# Altium footprint library Kanaloa_v2.0.0_Motor.PcbLib: 76 footprints (part 3 of 5)
Each footprint in its own frame and in the unit in brackets; x right, y up, seen from the top. Pads: shape width x height; smd on the part's side, far side on the other; paste and mask are expansions set on the pad; w line width, h text height; cw(c..) or ccw(c..) is an arc to the next point about the centre after c.
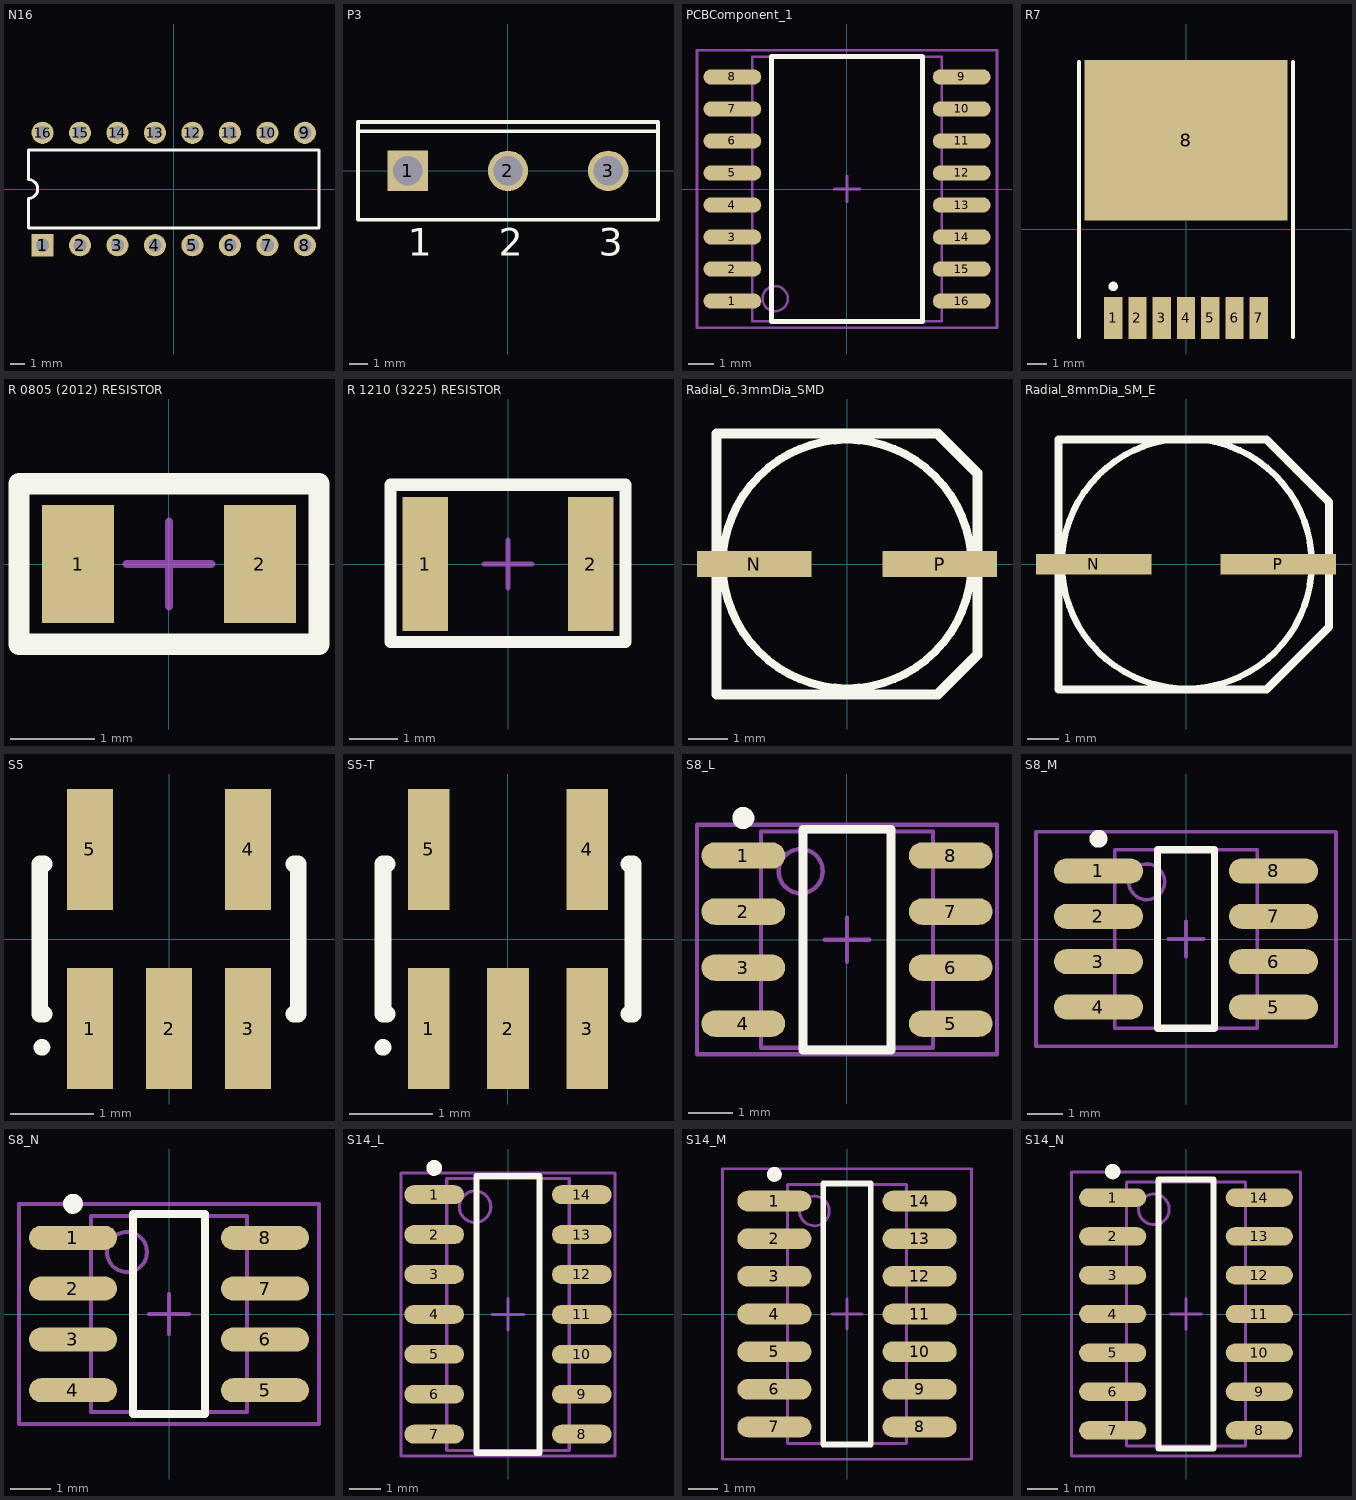
[diagram p2: the footprints below, top view; thin cyan lines are the x and y axes]

## N16 [mm] "DIP, Plastic; 16 Leads; Row Spacing 7.62 mm; Pitch 2.54 mm"
height 4.45
pads (16):
  rect 1.5x1.5 hole 0.9: 1(-8.89,-3.81)
  round 1.5 hole 0.9: 2(-6.35,-3.81) 3(-3.81,-3.81) 4(-1.27,-3.81) 5(1.27,-3.81) 6(3.81,-3.81) 7(6.35,-3.81) 8(8.89,-3.81) 9(8.89,3.81) 10(6.35,3.81) 11(3.81,3.81) 12(1.27,3.81) 13(-1.27,3.81) 14(-3.81,3.81) 15(-6.35,3.81) 16(-8.89,3.81)
Top Overlay:
  lines w0.2: -9.85,-2.65 -9.85,-0.635 ccw(c-9.85,0) -9.85,0.635 -9.85,2.65 9.85,2.65 9.85,-2.65 -9.85,-2.65

## P3 [mm] "SIP with Mounting Hole; 3 Leads; Body 21.6 x 16 x 5 mm (typ); Pitch 5.45 mm"
height 26.5
pads (3):
  rect 2.2x2.2 hole 1.6: 1(-5.45,0)
  round 2.2 hole 1.6: 2(0,0) 3(5.45,0)
Top Overlay:
  lines w0.2: -8.15,2.15 8.15,2.15 ; -8.15,-2.65 -8.15,2.65 8.15,2.65 8.15,-2.65 -8.15,-2.65
  text "3" at 4.942,-4.625 h1.5
  text "2" at -0.508,-4.625 h1.5
  text "1" at -5.45,-4.625 h1.5

## PCBComponent_1 [mm]
pads (16):
  oval 2.3x0.6 smd: 1(-4.55,-4.445) 2(-4.55,-3.175) 3(-4.55,-1.905) 4(-4.55,-0.635) 5(-4.55,0.635) 6(-4.55,1.905) 7(-4.55,3.175) 8(-4.55,4.445) 9(4.55,4.445) 10(4.55,3.175) 11(4.55,1.905) 12(4.55,0.635) 13(4.55,-0.635) 14(4.55,-1.905) 15(4.55,-3.175) 16(4.55,-4.445)
Top Overlay:
  lines w0.2: -3,-5.25 3,-5.25 3,5.25 -3,5.25 -3,-5.25
Bottom Overlay:
  circle w0.6: c-2,-4.25 r0.3
  circle w0.25: c-4.55,-5.295 r0.125
Mechanical 13:
  circle w0.1: c-2.85,-4.35 r0.5
  lines w0.1: -3.75,-5.25 3.75,-5.25 3.75,5.25 -3.75,5.25 -3.75,-5.25
Mechanical 15:
  lines w0.1: -0.5,0 0.5,0 ; 0,-0.5 0,0.5 ; -5.95,-5.5 5.95,-5.5 5.95,5.5 -5.95,5.5 -5.95,-5.5

## R7 [mm] "D2-PAK; 7 Leads; Body 13.9 (inc. leads) x 10.6 mm (LxW max)"
height 4.65
pads (8):
  rect 0.95x2.2 smd: 1(-3.81,-4.65) 2(-2.54,-4.65) 3(-1.27,-4.65) 4(0,-4.65) 5(1.27,-4.65) 6(2.54,-4.65) 7(3.81,-4.65)
  rect 10.6x8.4 smd: 8(0,4.65)
Top Overlay:
  circle w0.25: c-3.81,-3 r0.125
  lines w0.2: -5.6,-5.65 -5.6,8.75 ; 5.6,-5.65 5.6,8.75

## R 0805 (2012) RESISTOR [mm] "0805 (2012) Resistor"
height 0.6
pads (2):
  rect 0.85x1.4 smd: 1(-1.075,0) 2(1.075,0)
Top Overlay:
  lines w0.254: -1.775,-0.95 -1.775,0.95 1.775,0.95 1.775,-0.95 -1.775,-0.95
Mechanical 15:
  lines w0.1: -0.5,0 0.5,0 ; 0,-0.5 0,0.5 ; -1.775,-0.95 -1.775,0.95 1.775,0.95 1.775,-0.95 -1.775,-0.95
3D body: height 0.85, standoff 0, extent 0.813,-0.65 1.188,0.65
3D body: height 0.85, standoff 0, extent -1.1,-0.635 1.1,0.635
3D body: height 0.85, standoff 0, extent -1.188,-0.65 -0.813,0.65

## R 1210 (3225) RESISTOR [mm] "1210 (3225) Resistor"
height 1.8
pads (2):
  rect 0.95x2.8 smd: 1(-1.725,0) 2(1.725,0)
Top Overlay:
  lines w0.254: -2.45,-1.625 2.45,-1.625 2.45,1.65 -2.45,1.65 -2.45,-1.625
Mechanical 15:
  lines w0.1: -0.5,0 0.5,0 ; 0,-0.5 0,0.5 ; -2.45,-1.65 -2.45,1.65 2.45,1.65 2.45,-1.65 -2.45,-1.65
3D body: height 1.8, standoff 0, extent -1.8,-1.4 1.8,1.4
3D body: height 1.81, standoff 0, extent -1.825,-1.425 -1.075,1.425
3D body: height 1.81, standoff 0, extent 1.075,-1.425 1.825,1.425

## Radial_6.3mmDia_SMD [mm] "Surface Mount Aluminum Electrolytic Capacitor"
height 5.8
pads (2):
  rect 2.9x0.65 smd: N(-2.35,0) P(2.35,0)
Top Overlay:
  circle w0.203: c0,0 r3.15
  lines w0.254: -3.3,-3.3 2.3,-3.3 3.3,-2.3 3.3,2.3 2.3,3.3 -3.3,3.3 -3.3,-3.3
3D body: height 7.7, standoff 0, extent -3.449,-3.3 3.551,3.3

## Radial_8mmDia_SM_E [mm] "Surface Mount Aluminum Electrolytic Capacitor"
height 6.2
pads (2):
  rect 3.7x0.65 smd: N(-2.95,0) P(2.95,0)
Top Overlay:
  circle w0.203: c0.025,0.025 r4
  lines w0.254: -4.075,-4 -4.075,4 2.575,4 4.575,2 4.575,-2 2.575,-4 -4.075,-4
3D body: height 6.2, standoff 0, extent -3.987,-3.987 4.037,4.037

## S5 [mm] "SOT-23/SC-74A; 5 Leads; Body 3.1 x 3 mm, inc. leads (LxW max)"
height 1.45
pads (5):
  rect 0.55x1.45 smd: 1(-0.95,-1.075) 2(0,-1.075) 3(0.95,-1.075) 4(0.95,1.075) 5(-0.95,1.075)
Top Overlay:
  circle w0.1: c-1.525,-1.3 r0.05
  lines w0.2: -1.5,-0.9 -1.55,-0.9 -1.55,0.9 -1.5,0.9 ; 1.5,-0.9 1.55,-0.9 1.55,0.9 1.5,0.9

## S5-T [mm] "SOT-23/SC-74A; 5 Leads; Body 3.1 x 3 mm, inc. leads (LxW max)"
height 1
pads (5):
  rect 0.5x1.45 smd: 1(-0.95,-1.075) 2(0,-1.075) 3(0.95,-1.075) 4(0.95,1.075) 5(-0.95,1.075)
Top Overlay:
  circle w0.1: c-1.5,-1.3 r0.05
  lines w0.2: -1.45,-0.9 -1.5,-0.9 -1.5,0.9 -1.45,0.9 ; 1.45,-0.9 1.5,-0.9 1.5,0.9 1.45,0.9

## S8_L [mm] "8-Pin Small Outline Integrated Circuit 1.27 mm Pitch, IPC High Density"
height 1.76
pads (8):
  oval 1.9x0.6 smd: 1(-2.35,1.905) 2(-2.35,0.635) 3(-2.35,-0.635) 4(-2.35,-1.905) 5(2.35,-1.905) 6(2.35,-0.635) 7(2.35,0.635) 8(2.35,1.905)
Top Overlay:
  circle w0.25: c-2.35,2.755 r0.125
  lines w0.2: -1,-2.5 1,-2.5 1,2.5 -1,2.5 -1,-2.5
Mechanical 13:
  circle w0.1: c-1.05,1.55 r0.5
  lines w0.1: -1.95,-2.45 1.95,-2.45 1.95,2.45 -1.95,2.45 -1.95,-2.45
Mechanical 15:
  lines w0.1: -0.5,0 0.5,0 ; 0,-0.5 0,0.5 ; -3.4,-2.6 3.4,-2.6 3.4,2.6 -3.4,2.6 -3.4,-2.6
3D body: height 1.76, standoff 0, extent -1.95,-2.45 1.95,2.45

## S8_M [mm] "8-Pin Small Outline Integrated Circuit 1.27 mm Pitch, IPC Low Density"
height 1.76
pads (8):
  oval 2.5x0.7 smd: 1(-2.45,1.905) 2(-2.45,0.635) 3(-2.45,-0.635) 4(-2.45,-1.905) 5(2.45,-1.905) 6(2.45,-0.635) 7(2.45,0.635) 8(2.45,1.905)
Top Overlay:
  circle w0.25: c-2.45,2.805 r0.125
  lines w0.2: -0.8,-2.5 0.8,-2.5 0.8,2.5 -0.8,2.5 -0.8,-2.5
Mechanical 13:
  circle w0.1: c-1.1,1.6 r0.5
  lines w0.1: -2,-2.5 2,-2.5 2,2.5 -2,2.5 -2,-2.5
Mechanical 15:
  lines w0.1: -0.5,0 0.5,0 ; 0,-0.5 0,0.5 ; -4.2,-3 4.2,-3 4.2,3 -4.2,3 -4.2,-3
3D body: height 1.76, standoff 0, extent -2,-2.5 2,2.5

## S8_N [mm] "8-Pin Small Outline Integrated Circuit 1.27 mm Pitch, IPC Medium Density"
height 1.76
pads (8):
  oval 2.2x0.6 smd: 1(-2.4,1.905) 2(-2.4,0.635) 3(-2.4,-0.635) 4(-2.4,-1.905) 5(2.4,-1.905) 6(2.4,-0.635) 7(2.4,0.635) 8(2.4,1.905)
Top Overlay:
  circle w0.25: c-2.4,2.755 r0.125
  lines w0.2: -0.9,-2.5 -0.9,2.5 0.9,2.5 0.9,-2.5 -0.9,-2.5
Mechanical 13:
  circle w0.1: c-1.05,1.55 r0.5
  lines w0.1: -1.95,-2.45 -1.95,2.45 1.95,2.45 1.95,-2.45 -1.95,-2.45
Mechanical 15:
  lines w0.1: -0.5,0 0.5,0 ; 0,-0.5 0,0.5 ; -3.75,-2.75 -3.75,2.75 3.75,2.75 3.75,-2.75 -3.75,-2.75
3D body: height 1.76, standoff 0, extent -1.95,-2.45 1.95,2.45

## S14_L [mm] "14-Pin Small Outline Integrated Circuit 1.27 mm Pitch, IPC High Density"
height 1.76
pads (14):
  oval 1.9x0.6 smd: 1(-2.35,3.81) 2(-2.35,2.54) 3(-2.35,1.27) 4(-2.35,0) 5(-2.35,-1.27) 6(-2.35,-2.54) 7(-2.35,-3.81) 8(2.35,-3.81) 9(2.35,-2.54) 10(2.35,-1.27) 11(2.35,0) 12(2.35,1.27) 13(2.35,2.54) 14(2.35,3.81)
Top Overlay:
  circle w0.25: c-2.35,4.66 r0.125
  lines w0.2: -1,-4.4 -1,4.4 1,4.4 1,-4.4 -1,-4.4
Mechanical 13:
  circle w0.1: c-1.05,3.425 r0.5
  lines w0.1: -1.95,-4.325 -1.95,4.325 1.95,4.325 1.95,-4.325 -1.95,-4.325
Mechanical 15:
  lines w0.1: -0.5,0 0.5,0 ; 0,-0.5 0,0.5 ; -3.4,-4.5 -3.4,4.5 3.4,4.5 3.4,-4.5 -3.4,-4.5
3D body: height 1.76, standoff 0, extent -1.95,-4.325 1.95,4.325

## S14_M [mm] "14-Pin Small Outline Integrated Circuit 1.27 mm Pitch, IPC Low Density"
height 1.76
pads (14):
  oval 2.5x0.7 smd: 1(-2.45,3.81) 2(-2.45,2.54) 3(-2.45,1.27) 4(-2.45,0) 5(-2.45,-1.27) 6(-2.45,-2.54) 7(-2.45,-3.81) 8(2.45,-3.81) 9(2.45,-2.54) 10(2.45,-1.27) 11(2.45,0) 12(2.45,1.27) 13(2.45,2.54) 14(2.45,3.81)
Top Overlay:
  circle w0.25: c-2.45,4.71 r0.125
  lines w0.2: -0.8,-4.4 0.8,-4.4 0.8,4.4 -0.8,4.4 -0.8,-4.4
Mechanical 13:
  circle w0.1: c-1.1,3.475 r0.5
  lines w0.1: -2,-4.375 2,-4.375 2,4.375 -2,4.375 -2,-4.375
Mechanical 15:
  lines w0.1: -0.5,0 0.5,0 ; 0,-0.5 0,0.5 ; -4.2,-4.9 4.2,-4.9 4.2,4.9 -4.2,4.9 -4.2,-4.9
3D body: height 1.76, standoff 0, extent -2,-4.375 2,4.375

## S14_N [mm] "14-Pin Small Outline Integrated Circuit 1.27 mm Pitch, IPC Medium Density"
height 1.76
pads (14):
  oval 2.2x0.6 smd: 1(-2.4,3.81) 2(-2.4,2.54) 3(-2.4,1.27) 4(-2.4,0) 5(-2.4,-1.27) 6(-2.4,-2.54) 7(-2.4,-3.81) 8(2.4,-3.81) 9(2.4,-2.54) 10(2.4,-1.27) 11(2.4,0) 12(2.4,1.27) 13(2.4,2.54) 14(2.4,3.81)
Top Overlay:
  circle w0.25: c-2.4,4.66 r0.125
  lines w0.2: -0.9,-4.4 0.9,-4.4 0.9,4.4 -0.9,4.4 -0.9,-4.4
Mechanical 13:
  circle w0.1: c-1.05,3.425 r0.5
  lines w0.1: -1.95,-4.325 1.95,-4.325 1.95,4.325 -1.95,4.325 -1.95,-4.325
Mechanical 15:
  lines w0.1: -0.5,0 0.5,0 ; 0,-0.5 0,0.5 ; -3.75,-4.65 3.75,-4.65 3.75,4.65 -3.75,4.65 -3.75,-4.65
3D body: height 1.76, standoff 0, extent -1.95,-4.325 1.95,4.325